# EAGLE library part 504050-0891 (library 504050-0891)
MOLEX - 504050-0891 - CONNECTOR, RECEPTACLE, 8POS, 1ROW, 1.5MM Source: Datasheet <https://componentsearchengine.com/Datasheets/1/504050-0891.pdf>
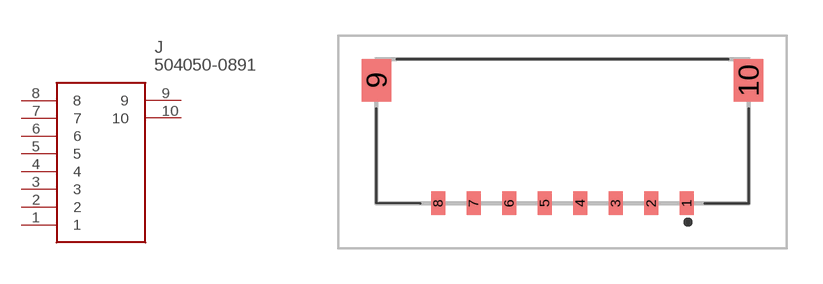
[diagram p0: symbol with the pads of 5040500891; footprint 5040500891]

Designator prefix J

## 504050-0891 (Description: MOLEX - 504050-0891 - CONNECTOR, RECEPTACLE, 8POS, 1ROW, 1.5MM; Height: 2mm; Manufacturer_Name: Molex; Manufacturer_Part_Number: 504050-0891; Mouser_Part_Number: 538-504050-0891; Mouser_Price-Stock: https://www.mouser.com/Search/Refine.aspx?Keyword=538-504050-0891)  [5040500891]
1  1
2  2
3  3
4  4
5  5
6  6
7  7
8  8
9  9
10  10

## Footprint 5040500891 (pad centres in mm)
5040500891
smd 0.6 x 1: 1 5.25,-2.59; 2 3.75,-2.59; 3 2.25,-2.59; 4 0.75,-2.59; 5 -0.75,-2.59; 6 -2.25,-2.59; 7 -3.75,-2.59; 8 -5.25,-2.59
smd 1.25 x 1.8: 9 -7.855,2.6; 10 7.855,2.6